# Altium schematic symbol library CD4093BM96.Schlib: 1 symbol
Pins are listed as number, name and electrical type; pins without a type are passive.

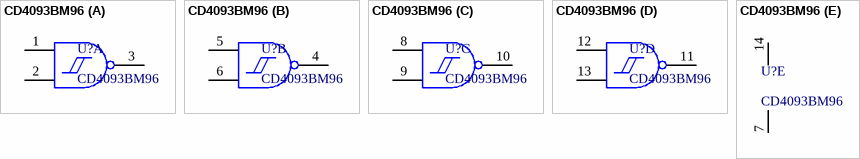
[diagram p0: symbol CD4093BM96]

## CD4093BM96
designator U?
NAND Gate IC 4 Channel  14-SOIC
part A pins: 1 A, 2 B, 3 J
part B pins: 4 K, 5 C, 6 D
part C pins: 8 E, 9 F, 10 L
part D pins: 11 M, 12 G, 13 H
part E pins: 7 VSS, 14 VDD